# EAGLE library part ODIN-W161 (library ubloxLib)
ODIN-W161: Host-based multiradio module with Wi-Fi and Bluetooth u-blox.com
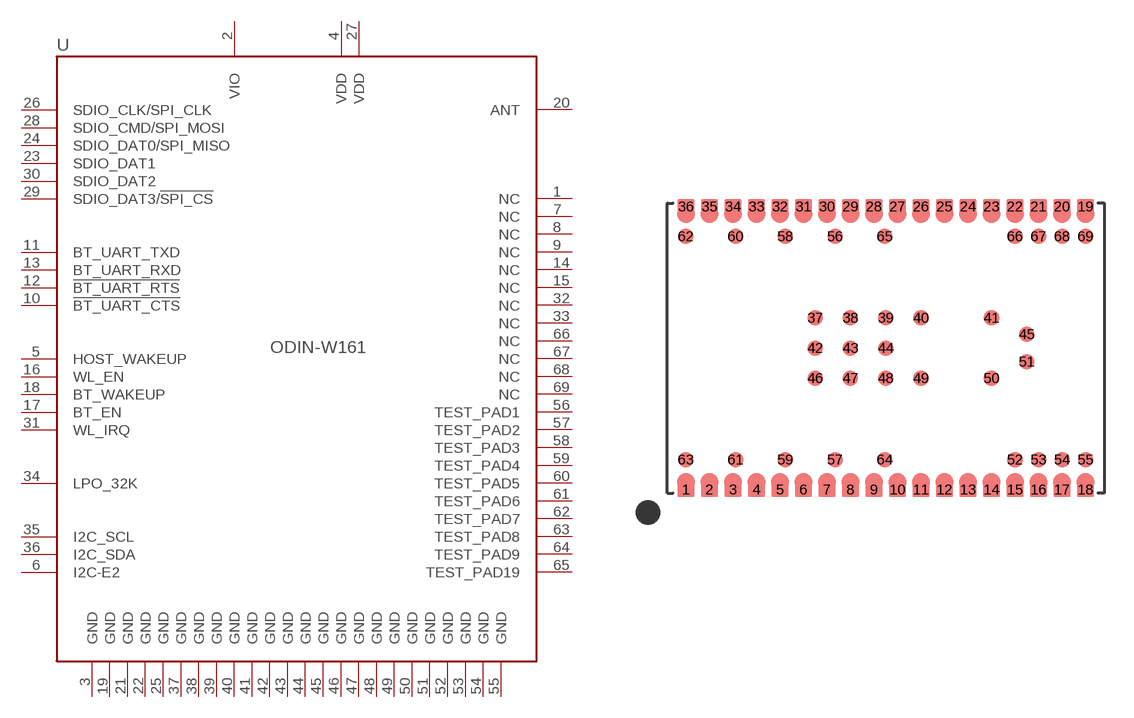
[diagram p1: symbol with the pads of ODIN-69; footprint ODIN-69]

Designator prefix U

## ODIN-W161  [ODIN-69]
1  NC  nc
2  VIO  pwr
3  GND  pwr
4  VDD  pwr
5  HOST_WAKEUP  out
6  I2C-E2  in
7  NC  nc
8  NC  nc
9  NC  nc
10  !BT_UART_CTS  in
11  BT_UART_TXD  out
12  !BT_UART_RTS  out
13  BT_UART_RXD  in
14  NC  nc
15  NC  nc
16  WL_EN  in
17  BT_EN  in
18  BT_WAKEUP  in
19  GND  pwr
20  ANT
21  GND  pwr
22  GND  pwr
23  SDIO_DAT1
24  SDIO_DAT0/SPI_MISO
25  GND  pwr
26  SDIO_CLK/SPI_CLK  in
27  VDD  pwr
28  SDIO_CMD/SPI_MOSI
29  SDIO_DAT3/!SPI_CS
30  SDIO_DAT2
31  WL_IRQ  out
32  NC  nc
33  NC  nc
34  LPO_32K  in
35  I2C_SCL  in
36  I2C_SDA
37  GND  pwr
38  GND  pwr
39  GND  pwr
40  GND  pwr
41  GND  pwr
42  GND  pwr
43  GND  pwr
44  GND  pwr
45  GND  pwr
46  GND  pwr
47  GND  pwr
48  GND  pwr
49  GND  pwr
50  GND  pwr
51  GND  pwr
52  GND  pwr
53  GND  pwr
54  GND  pwr
55  GND  pwr
56  TEST_PAD1  nc
57  TEST_PAD2  nc
58  TEST_PAD3  nc
59  TEST_PAD4  nc
60  TEST_PAD5  nc
61  TEST_PAD6  nc
62  TEST_PAD7  nc
63  TEST_PAD8  nc
64  TEST_PAD9  nc
65  TEST_PAD19  nc
66  NC  nc
67  NC  nc
68  NC  nc
69  NC  nc

## Footprint ODIN-69 (pad centres in mm)
ODIN-W1: 69 pin u-blox.com
smd 0.9 x 0.75: 1 -10.2,-7.225; 2 -9,-7.225; 3 -7.8,-7.225; 4 -6.6,-7.225; 5 -5.4,-7.225; 6 -4.2,-7.225; 7 -3,-7.225; 8 -1.8,-7.225; 9 -0.6,-7.225; 10 0.6,-7.225; 11 1.8,-7.225; 12 3,-7.225; 13 4.2,-7.225; 14 5.4,-7.225; 15 6.6,-7.225; 16 7.8,-7.225; 17 9,-7.225; 18 10.2,-7.225; 19 10.2,7.225; 20 9,7.225; 21 7.8,7.225; 22 6.6,7.225; 23 5.4,7.225; 24 4.2,7.225; 25 3,7.225; 26 1.8,7.225; 27 0.6,7.225; 28 -0.6,7.225; 29 -1.8,7.225; 30 -3,7.225; 31 -4.2,7.225; 32 -5.4,7.225; 33 -6.6,7.225; 34 -7.8,7.225; 35 -9,7.225; 36 -10.2,7.225
smd 0.8 x 0.8: 37 -3.6,1.54; 38 -1.8,1.54; 39 0,1.54; 40 1.8,1.54; 41 5.4,1.54; 42 -3.6,0; 43 -1.8,0; 44 0,0; 45 7.2,0.7; 46 -3.6,-1.54; 47 -1.8,-1.54; 48 0,-1.54; 49 1.8,-1.54; 50 5.4,-1.54; 51 7.2,-0.7; 52 6.6,-5.7; 53 7.8,-5.7; 54 9,-5.7; 55 10.2,-5.7; 56 -2.59,5.7; 57 -2.59,-5.7; 58 -5.13,5.7; 59 -5.13,-5.7; 60 -7.67,5.7; 61 -7.67,-5.7; 62 -10.21,5.7; 63 -10.21,-5.7; 64 -0.05,-5.7; 65 -0.05,5.7; 66 6.6,5.7; 67 7.8,5.7; 68 9,5.7; 69 10.2,5.7